# Altium footprint library ESender_PCB_Lib.PcbLib: 52 footprints (part 1 of 4)
Each footprint in its own frame and in the unit in brackets; x right, y up, seen from the top. Pads: shape width x height; smd on the part's side, far side on the other; paste and mask are expansions set on the pad; w line width, h text height; cw(c..) or ccw(c..) is an arc to the next point about the centre after c.
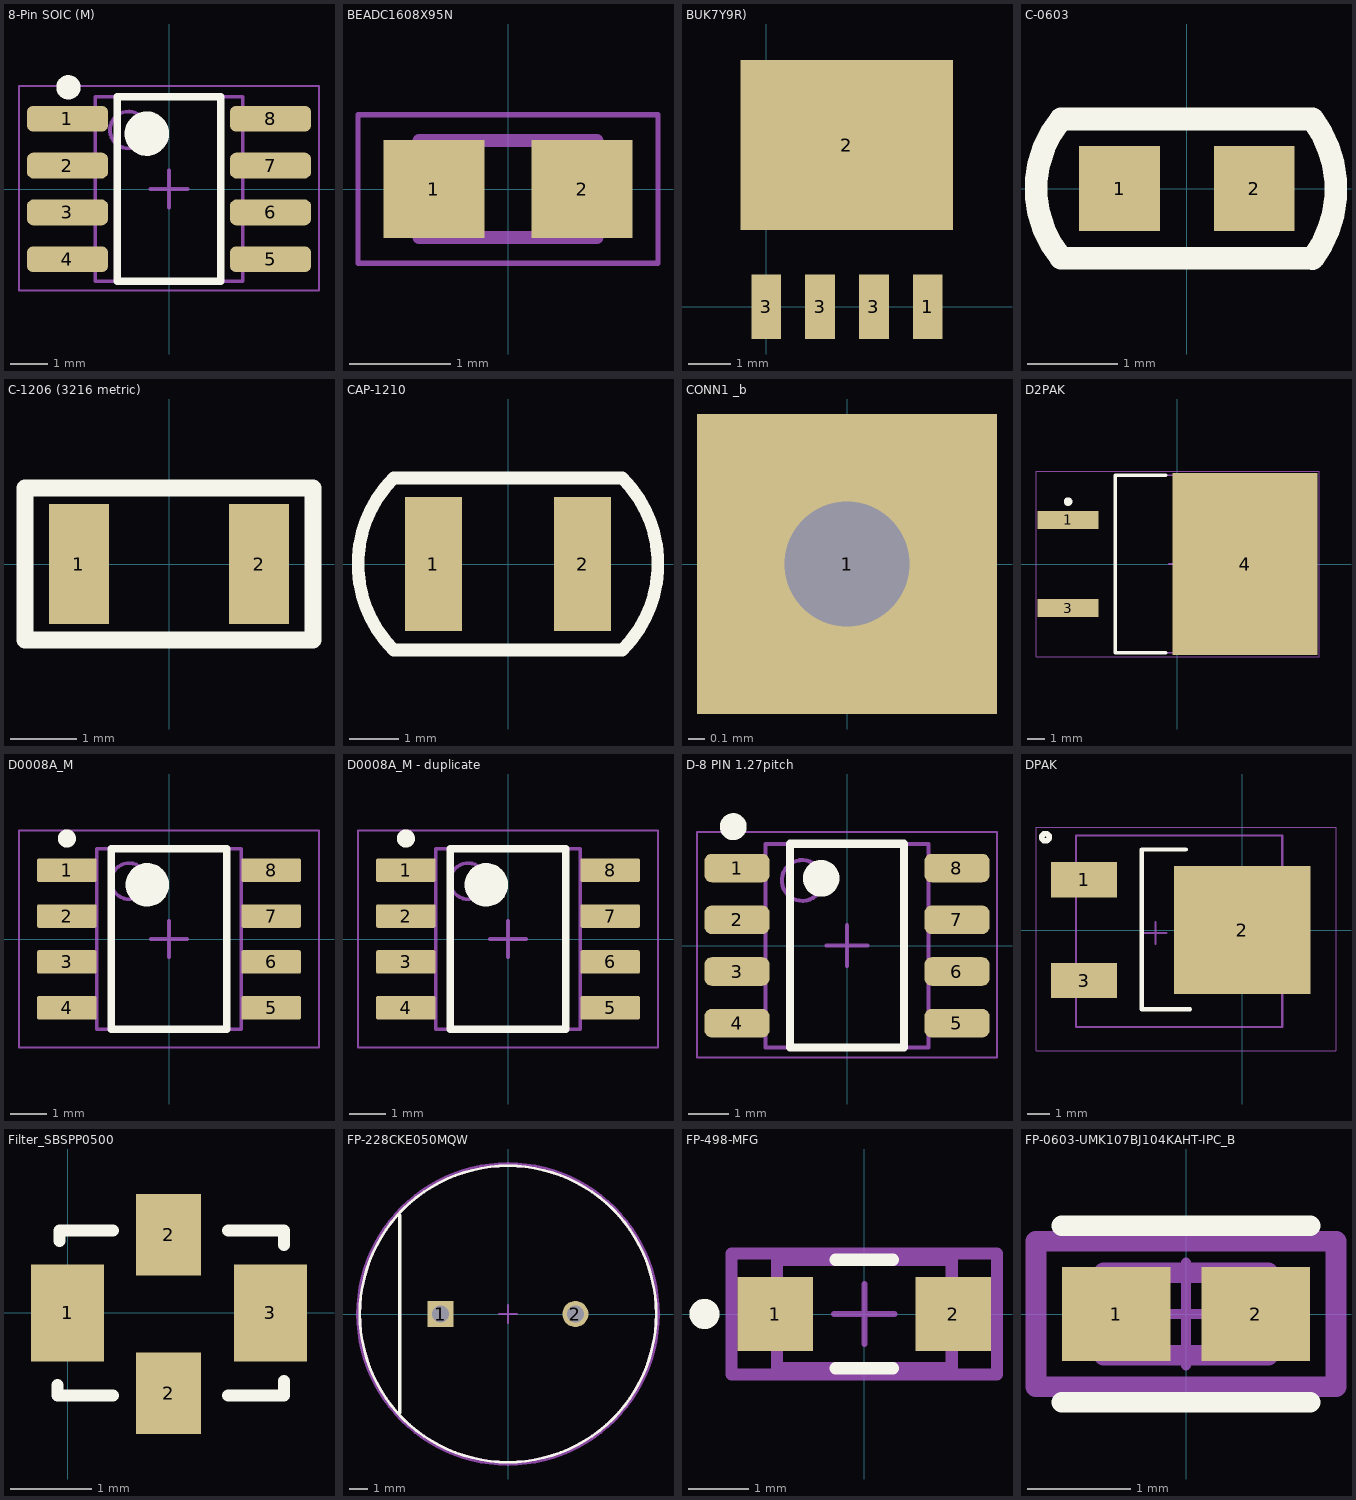
[diagram p0: the footprints below, top view; thin cyan lines are the x and y axes]

## 8-Pin SOIC (M) [mm] "Pitch 1.27mm"
height 1.1
pads (8):
  rrect50% 2.2x0.7 smd: 1(-2.75,1.905) 2(-2.75,0.635) 3(-2.75,-0.635) 4(-2.75,-1.905) 5(2.75,-1.905) 6(2.75,-0.635) 7(2.75,0.635) 8(2.75,1.905)
Top Overlay:
  circle w0.6: c-0.6,1.5 r0.3
  circle w0.35: c-2.725,2.755 r0.155
  lines w0.2: -1.397,-2.5 1.397,-2.5 1.397,2.5 -1.397,2.5 -1.397,-2.5
Mechanical 13:
  circle w0.1: c-1.1,1.6 r0.5
  lines w0.1: -2,-2.5 2,-2.5 2,2.5 -2,2.5 -2,-2.5
Mechanical 15:
  lines w0.05: -4.064,-2.75 4.064,-2.75 4.064,2.794 -4.064,2.794 -4.064,-2.75
  lines w0.1: -0.5,0 0.5,0 ; 0,-0.5 0,0.5
3D body: height 1.1, standoff 0.1, extent -2,-2.5 2,2.5

## BEADC1608X95N [mm]
pads (2):
  rect 1x0.97 smd: 1(-0.735,0) 2(0.735,0)
Mechanical 13:
  lines w0.127: -0.88,-0.48 0.88,-0.48 0.88,0.48 -0.88,0.48 -0.88,-0.48
Mechanical 15:
  lines w0.05: -1.485,-0.735 1.485,-0.735 1.485,0.735 -1.485,0.735 -1.485,-0.735

## BUK7Y9R) [mm] "MOS FET"
height 1.1
pads (5):
  rect 0.7x1.524 smd: 1(3.81,0) 3(0,0) 3(1.27,0) 3(2.54,0)
  rect 5x4 smd: 2(1.9,3.81)

## C-0603 [mm] "Capacitors 0603"
height 0.6
pads (2):
  rect 0.9x0.95 smd: 1(-0.75,0) 2(0.75,0)
Top Overlay:
  lines w0.254: 1.4,-0.78 ccw(c0.375,-0.005) 1.4,0.77 ; 1.4,-0.775 -1.4,-0.775 cw(c-0.467,0) -1.4,0.775 1.4,0.775
3D body "CAP0603.STEP": height 0.86, standoff 0, extent -0.8,-0.4 0.8,0.4

## C-1206 (3216 metric) [mm]
height 0.6
pads (2):
  rect 0.9x1.8 smd: 1(-1.35,0) 2(1.35,0)
Top Overlay:
  lines w0.254: -2.159,-1.143 2.159,-1.143 2.159,1.143 -2.159,1.143 -2.159,-1.143
3D body "C-1206.STEP": height 1.77, standoff 0.03, extent -1.6,-0.85 1.6,0.85

## CAP-1210 [mm] "Capacitors, SMD, 1210"
height 1.4
pads (2):
  rect 1.15x2.7 smd: 1(-1.5,0) 2(1.5,0)
Top Overlay:
  lines w0.254: -2.3,-1.73 cw(c-0.57,0) -2.3,1.73 2.3,1.73 cw(c0.57,0) 2.3,-1.73 -2.3,-1.73
3D body "CAP1210.STEP": height 1.3, standoff 0, extent -1.6,-1.25 1.6,1.25

## CONN1 _b [mm]
pads (1):
  rect 1.8x1.8 hole 0.75: 1(0,0)

## D2PAK [mm] "DPAK, 3-Leads, Body 10.24x9.35mm, Pitch 2.54mm"
height 4.572
pads (3):
  rect 3.504x1.016 smd: 1(-6.313,2.54) 3(-6.313,-2.54)
  rect 8.38x10.49 smd: 4(3.9,0)
Top Overlay:
  circle w0.25: c-6.313,3.598 r0.125
  lines w0.2: -0.69,-5.12 -3.6,-5.12 -3.6,5.12 -0.69,5.12
Mechanical 13:
  lines w0.1: -3.6,-5.12 5.75,-5.12 5.75,5.12 -3.6,5.12 -3.6,-5.12
Mechanical 15:
  lines w0.05: -8.164,-5.345 8.189,-5.345 8.189,5.345 -8.164,5.345 -8.164,-5.345
  lines w0.1: -0.5,0 0.5,0 ; 0,-0.5 0,0.5
3D body "DPAK254P1420X475-3L.step": height 4.75, standoff 0, extent -6.113,-5.125 8.086,5.125

## D0008A_M [mm] "SOIC, 8-Leads, Body 5x4mm, Pitch 1.27mm, IPC Low Density"
height 1.75
pads (8):
  rrect15% 1.65x0.65 smd: 1(-2.825,1.905) 2(-2.825,0.635) 3(-2.825,-0.635) 4(-2.825,-1.905) 5(2.825,-1.905) 6(2.825,-0.635) 7(2.825,0.635) 8(2.825,1.905)
Top Overlay:
  circle w0.6: c-0.6,1.5 r0.3
  circle w0.25: c-2.825,2.78 r0.125
  lines w0.2: -1.6,-2.5 1.6,-2.5 1.6,2.5 -1.6,2.5 -1.6,-2.5
Mechanical 1:
  text ".Designator" at -1.397,-0.254 h0.6
Mechanical 13:
  circle w0.1: c-1.1,1.6 r0.5
  lines w0.1: -2,-2.5 2,-2.5 2,2.5 -2,2.5 -2,-2.5
Mechanical 15:
  lines w0.05: -4.15,-3 4.15,-3 4.15,3 -4.15,3 -4.15,-3
  lines w0.1: -0.5,0 0.5,0 ; 0,-0.5 0,0.5
3D body "SOIC-8akaD0008AakaM08A.stp": height 1.63, standoff 0, extent -3,-2.45 3,2.45

## D0008A_M - duplicate [mm] "SOIC, 8-Leads, Body 5x4mm, Pitch 1.27mm, IPC Low Density"
height 1.75
pads (8):
  rrect15% 1.65x0.65 smd: 1(-2.825,1.905) 2(-2.825,0.635) 3(-2.825,-0.635) 4(-2.825,-1.905) 5(2.825,-1.905) 6(2.825,-0.635) 7(2.825,0.635) 8(2.825,1.905)
Top Overlay:
  circle w0.25: c-2.825,2.78 r0.125
  circle w0.6: c-0.6,1.5 r0.3
  lines w0.2: -1.6,-2.5 -1.6,2.5 1.6,2.5 1.6,-2.5 -1.6,-2.5
Mechanical 1:
  text ".Designator" at -1.397,-0.254 h0.6
Mechanical 13:
  circle w0.1: c-1.1,1.6 r0.5
  lines w0.1: -2,-2.5 -2,2.5 2,2.5 2,-2.5 -2,-2.5
Mechanical 15:
  lines w0.05: -4.15,-3 -4.15,3 4.15,3 4.15,-3 -4.15,-3
  lines w0.1: -0.5,0 0.5,0 ; 0,-0.5 0,0.5
3D body "SOIC-8akaD0008AakaM08A.stp": height 1.63, standoff 0, extent -3,-2.45 3,2.45

## D-8 PIN 1.27pitch [mm] "Pitch 1.27mm"
height 1.1
pads (8):
  rrect50% 1.6x0.7 smd: 1(-2.7,1.905) 2(-2.7,0.635) 3(-2.7,-0.635) 4(-2.7,-1.905) 5(2.7,-1.905) 6(2.7,-0.635) 7(2.7,0.635) 8(2.7,1.905)
Top Overlay:
  circle w0.6: c-0.635,1.651 r0.15
  circle w0.35: c-2.794,2.921 r0.155
  lines w0.2: -1.397,-2.5 1.397,-2.5 1.397,2.5 -1.397,2.5 -1.397,-2.5
Mechanical 13:
  circle w0.1: c-1.1,1.6 r0.5
  lines w0.1: -2,-2.5 2,-2.5 2,2.5 -2,2.5 -2,-2.5
Mechanical 15:
  lines w0.05: -3.683,-2.75 3.683,-2.75 3.683,2.794 -3.683,2.794 -3.683,-2.75
  lines w0.1: -0.5,0 0.5,0 ; 0,-0.5 0,0.5
3D body: height 1.1, standoff 0.1, extent -2,-2.5 2,2.5

## DPAK [mm]
height 2.4
pads (3):
  rect 3x1.6 smd: 1(-7.17,2.285) 3(-7.17,-2.285)
  rect 6.2x5.8 smd: 2(0,0)
Top Overlay:
  circle w0.25: c-8.915,4.216 r0.168
  lines w0.2: -2.565,3.658 -4.547,3.658 -4.547,-3.581 -2.362,-3.581
Mechanical 13:
  lines w0.1: -7.533,-4.394 1.817,-4.394 1.817,4.293 -7.533,4.293 -7.533,-4.394
Mechanical 15:
  lines w0.05: -9.347,-5.472 4.256,-5.472 4.256,4.674 -9.347,4.674 -9.347,-5.472
  lines w0.1: -4.433,-0.127 -3.433,-0.127 ; -3.933,-0.627 -3.933,0.373
3D body "DPAK254P1420X475-3L.step": height 4.75, standoff 0, extent -10.046,-5.252 4.153,4.998

## Filter_SBSPP0500 [mm]
height 1.6
pads (4):
  rect 0.9x1.2 smd: 1(0,0) 3(2.5,0)
  rect 0.8x1 smd: 2(1.245,-0.991) 2(1.245,0.965)
Top Overlay:
  lines w0.15: -0.127,-0.889 -0.127,-1.016 0.559,-1.016 ; -0.102,0.889 -0.102,1.016 0.559,1.016 ; 1.981,-1.016 2.667,-1.016 2.667,-0.838 ; 1.981,1.016 2.667,1.016 2.667,0.838

## FP-228CKE050MQW [mm] "CAP ALUM 2200UF 20% 50V RADIAL"
pads (2):
  rect 1.45x1.45 hole 0.95 paste-1000 mask+0: 1(-3.75,0)
  round 1.45 hole 0.95 paste-1000 mask+0: 2(3.75,0)
Top Overlay:
  circle w0.15: c0,0 r8.25
  lines w0.2: -6.025,-5.5 -6.025,5.5
Mechanical 5:
  text ".Designator" at 0,0.188 h1
Mechanical 13:
  circle w0.15: c0,0 r8.25
Mechanical 15:
  lines w0.2: -8.35,0 cw(c0,0) 8.35,0 cw(c0,0) -8.35,0
Mechanical 16:
  lines w0.1: -0.5,0 0.5,0 ; 0,-0.5 0,0.5
3D body "Cap_United_Chemi-Con_EKXJ451ELL560MLN3S_eec.STEP": height 0.25, standoff 0, extent -8.35,-8.35 8.35,8.35

## FP-498-MFG [mm]
pads (2):
  rect 1.25x1.22 smd paste+0 mask+0: 1(-1.475,0) 2(1.475,0)
Top Overlay:
  circle w0.25: c-2.65,0 r0.125
  lines w0.2: -0.475,-0.9 0.475,-0.9 ; -0.475,0.9 0.475,0.9
Mechanical 5:
  lines w0.2: -2.2,-1 2.2,-1 2.2,1 -2.2,1 -2.2,-1
  text ".Designator" at 0,-0.001 h1
Mechanical 13:
  lines w0.2: -1.45,-0.9 1.45,-0.9 1.45,0.9 -1.45,0.9 -1.45,-0.9
Mechanical 15:
  lines w0.2: -2.2,-1 2.2,-1 2.2,1 -2.2,1 -2.2,-1
Mechanical 16:
  lines w0.1: -0.5,0 0.5,0 ; 0,-0.5 0,0.5
3D body "Diode_ON_Semiconductor_MBR2H200SFT1G_eec.STEP": height 0.25, standoff 0, extent -2.2,-1 2.2,1

## FP-0603-UMK107BJ104KAHT-IPC_B [mm]
pads (2):
  rect 1.058x0.912 smd paste+0 mask+0: 1(-0.677,0) 2(0.677,0)
Top Overlay:
  lines w0.2: -1.206,-0.856 1.206,-0.856 ; -1.206,0.856 1.206,0.856
Mechanical 5:
  lines w0.2: -1.456,-0.706 1.456,-0.706 1.456,0.706 -1.456,0.706 -1.456,-0.706
  text ".Designator" at 0,0.188 h1
Mechanical 13:
  lines w0.2: -0.8,-0.4 0.8,-0.4 0.8,0.4 -0.8,0.4 -0.8,-0.4
Mechanical 15:
  lines w0.2: -1.456,-0.706 1.456,-0.706 1.456,0.706 -1.456,0.706 -1.456,-0.706
Mechanical 16:
  lines w0.1: -0.5,0 0.5,0 ; 0,-0.5 0,0.5
3D body "Cap_Taiyo_Yuden_JMK107BJ105KAHT_eec.STEP": height 0.25, standoff 0, extent -1.456,-0.706 1.456,0.706